# EAGLE library part MC74HC595ADTR2G (library ewheel32)
8-Bit Serial-Input/Serial or Parallel-Output Shift Register with Latched 3-State Outputs
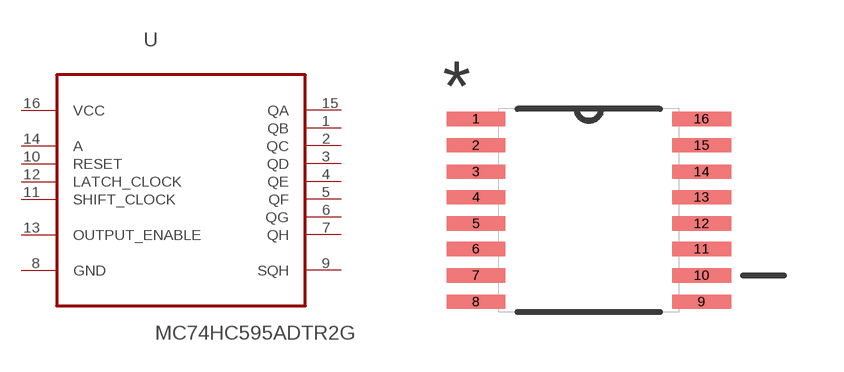
[diagram p3: symbol with the pads of SOP65P640X120-16N; footprint SOP65P640X120-16N]

Designator prefix U

## MC74HC595ADTR2G (MPN: MC74HC595ADTR2G; OC_FARNELL: 1607848; OC_NEWARK: 42K0910; PACKAGE: TSSOP-16; SUPPLIER: ON SEMICONDUCTOR)  [SOP65P640X120-16N]
1  QB  out
2  QC  out
3  QD  out
4  QE  out
5  QF  out
6  QG  out
7  QH  out
8  GND  pas
9  SQH
10  RESET  in
11  SHIFT_CLOCK  in
12  LATCH_CLOCK  in
13  OUTPUT_ENABLE  in
14  A  in
15  QA  out
16  VCC  pwr

## Footprint SOP65P640X120-16N (pad centres in mm)
smd 1.473 x 0.356: 1 -2.819,2.286; 2 -2.819,1.626; 3 -2.819,0.965; 4 -2.819,0.33; 5 -2.819,-0.33; 6 -2.819,-0.965; 7 -2.819,-1.626; 8 -2.819,-2.286; 9 2.819,-2.286; 10 2.819,-1.626; 11 2.819,-0.965; 12 2.819,-0.33; 13 2.819,0.33; 14 2.819,0.965; 15 2.819,1.626; 16 2.819,2.286